# EAGLE library part 91910-21525LF (library SHC)
Male 25 contact connector http://search.digikey.com/us/en/products/91910-21525LF/609-1583-ND/1001897
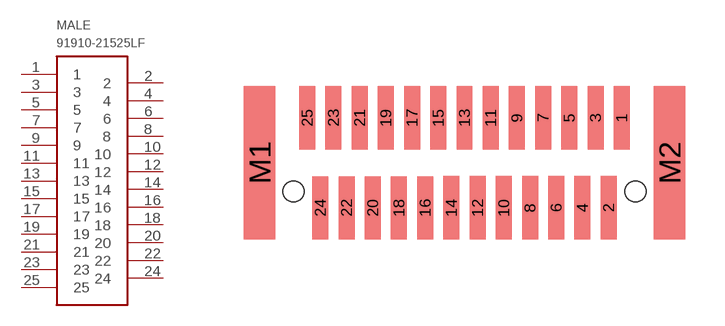
[diagram p28: symbol with the pads of 91910-21525LF; footprint 91910-21525LF]

Designator prefix MALE

## 91910-21525LF  [91910-21525LF]
1  1
2  2
3  3
4  4
5  5
6  6
7  7
8  8
9  9
10  10
11  11
12  12
13  13
14  14
15  15
16  16
17  17
18  18
19  19
20  20
21  21
22  22
23  23
24  24
25  25

## Footprint 91910-21525LF (pad centres in mm)
smd 0.61 x 2.413: 1 6,1.72; 2 5.5,-1.72; 3 5,1.72; 4 4.5,-1.72; 5 4,1.72; 6 3.5,-1.72; 7 3,1.72; 8 2.5,-1.72; 9 2,1.72; 10 1.5,-1.72; 11 1,1.72; 12 0.5,-1.72; 13 0,1.72; 14 -0.5,-1.72; 15 -1,1.72
smd 0.61 x 2.41: 16 -1.5,-1.72; 17 -2,1.72; 18 -2.5,-1.72; 19 -3,1.72; 20 -3.5,-1.72; 21 -4,1.72; 22 -4.5,-1.72; 23 -5,1.72; 24 -5.5,-1.72; 25 -6,1.72
smd 1.2 x 5.85: M1 -7.82,0; M2 7.82,0
hole 0.8 at 6.528,-1.1
hole 0.8 at -6.528,-1.1